# Altium footprint library ZIN-A.PcbLib: 24 footprints (part 2 of 2)
Each footprint in its own frame and in the unit in brackets; x right, y up, seen from the top. Pads: shape width x height; smd on the part's side, far side on the other; paste and mask are expansions set on the pad; w line width, h text height; cw(c..) or ccw(c..) is an arc to the next point about the centre after c.
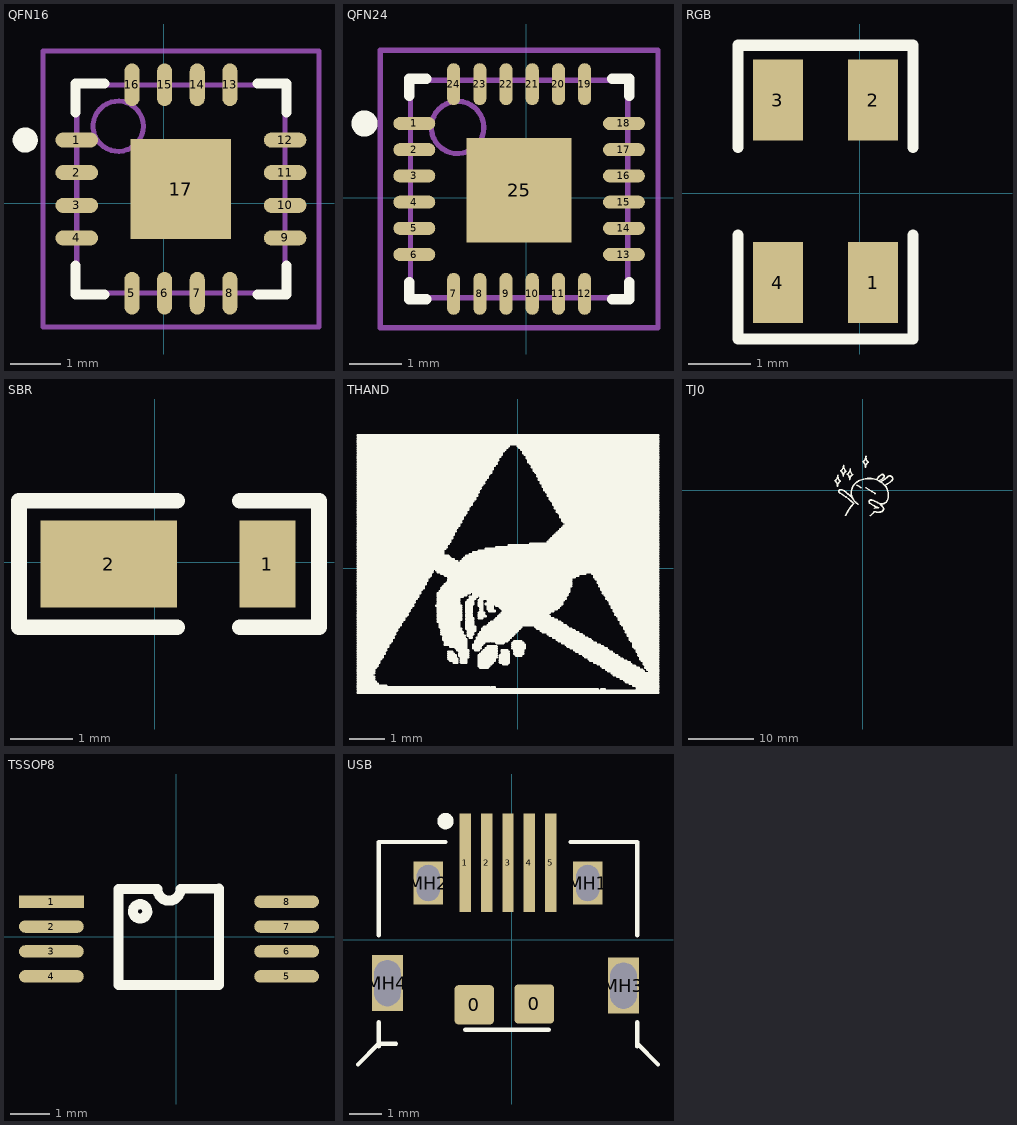
[diagram p1: the footprints below, top view; thin cyan lines are the x and y axes]

## QFN16 [mm]
pads (17):
  oval 0.85x0.3 smd: 1(-1.731,1.258) 2(-1.731,0.608) 3(-1.731,-0.042) 4(-1.731,-0.692) 9(2.419,-0.692) 10(2.419,-0.042) 11(2.419,0.608) 12(2.419,1.258)
  oval 0.3x0.85 smd: 5(-0.631,-1.792) 6(0.019,-1.792) 7(0.669,-1.792) 8(1.319,-1.792) 13(1.319,2.358) 14(0.669,2.358) 15(0.019,2.358) 16(-0.631,2.358)
  rect 2x2 smd: 17(0.344,0.283)
Top Overlay:
  circle w0.25: c-2.756,1.258 r0.125
  lines w0.2: -1.756,-1.242 -1.756,-1.817 -1.181,-1.817 ; -1.756,1.808 -1.756,2.383 -1.181,2.383 ; 1.869,-1.817 2.444,-1.817 2.444,-1.242 ; 1.869,2.383 2.444,2.383 2.444,1.808
Mechanical 13:
  circle w0.1: c-0.906,1.533 r0.5
  lines w0.1: -1.731,-1.792 -1.731,2.358 2.419,2.358 2.419,-1.792 -1.731,-1.792
Mechanical 15:
  lines w0.1: -0.156,0.283 0.844,0.283 ; 0.344,-0.217 0.344,0.783 ; -2.406,-2.467 -2.406,3.033 3.094,3.033 3.094,-2.467 -2.406,-2.467
3D body: height 0.78, standoff -0.02, extent -1.651,-1.756 2.369,2.264

## QFN24 [mm]
pads (25):
  oval 0.8x0.25 smd: 1(-2.136,1.413) 2(-2.136,0.913) 3(-2.136,0.413) 4(-2.136,-0.087) 5(-2.136,-0.587) 6(-2.136,-1.087) 13(1.864,-1.087) 14(1.864,-0.587) 15(1.864,-0.087) 16(1.864,0.413) 17(1.864,0.913) 18(1.864,1.413)
  oval 0.25x0.8 smd: 7(-1.386,-1.837) 8(-0.886,-1.837) 9(-0.386,-1.837) 10(0.114,-1.837) 11(0.614,-1.837) 12(1.114,-1.837) 19(1.114,2.163) 20(0.614,2.163) 21(0.114,2.163) 22(-0.386,2.163) 23(-0.886,2.163) 24(-1.386,2.163)
  rect 2x2 smd: 25(-0.136,0.138)
Top Overlay:
  circle w0.25: c-3.086,1.413 r0.125
  lines w0.2: -2.236,-1.612 -2.236,-1.937 -1.911,-1.937 ; -2.236,1.938 -2.236,2.263 -1.911,2.263 ; 1.639,-1.937 1.964,-1.937 1.964,-1.612 ; 1.639,2.263 1.964,2.263 1.964,1.938
Mechanical 13:
  circle w0.1: c-1.311,1.338 r0.5
  lines w0.1: -2.211,-1.912 1.939,-1.912 1.939,2.238 -2.211,2.238 -2.211,-1.912
Mechanical 15:
  lines w0.1: -0.636,0.163 0.364,0.163 ; -0.136,-0.337 -0.136,0.663 ; -2.786,-2.487 2.514,-2.487 2.514,2.813 -2.786,2.813 -2.786,-2.487
3D body: height 0.98, standoff -0.02, extent -2.159,-1.858 1.861,2.162

## RGB [mm]
pads (5):
  rect 0.8x1.3 smd: 1(0.215,-1.43) 2(0.215,1.491) 3(-1.309,1.491) 4(-1.309,-1.43)
  rrect50% 0.8x0.8 on Top Overlay: 10(1.153,2.067)
Top Overlay:
  lines w0.178: -1.944,-0.668 -1.944,-2.333 0.85,-2.333 0.85,-0.668 ; -1.944,0.729 -1.944,2.367 0.85,2.367 0.85,0.729
3D body: height 1.75, standoff -0.15, extent -1.88,-1.648 0.92,1.852

## SBR [mm]
pads (2):
  rect 0.9x1.4 smd: 1(1.814,-0.027)
  rect 2.2x1.4 smd: 2(-0.736,-0.027)
Top Overlay:
  lines w0.254: 0.359,-1.043 -2.181,-1.043 -2.181,0.989 0.359,0.989 ; 1.375,-1.043 2.645,-1.043 2.645,0.989 1.375,0.989
3D body: height 0.9, standoff 0, extent -1.461,-0.827 1.939,0.798

## THAND [mm]
Top Overlay:
  drawing of 472 lines, arcs and shapes, not listed

## TJ0 [mm] "TSJ"
height 9.6
Top Overlay:
  lines w0.254: -3.825,2.286 cw(c-4.826,2.286) -4.271,1.453 cw(c-4.953,0.635) -3.888,0.635 cw(c-3.048,0.635) -3.449,1.372 cw(c-2.794,2.159) -3.81,2.286 ; -3.437,-0.5 -3.683,-0.254 -3.683,-0.086 -3.513,0.084 -3.179,0.084 cw(c-6.477,-5.588) -1.651,-1.143 ; -3.419,-0.5 cw(c-8.763,-9.652) -1.397,-2.032 ccw(c8.255,-9.906) -2.646,-3.878 ; -2.936,3.81 cw(c-3.937,3.81) -3.382,2.977 cw(c-4.064,2.159) -2.999,2.159 cw(c-2.159,2.159) -2.56,2.896 cw(c-1.905,3.683) -2.921,3.81 ; -1.92,3.302 cw(c-2.921,3.302) -2.366,2.469 cw(c-3.048,1.651) -1.983,1.651 cw(c-1.143,1.651) -1.544,2.388 cw(c-0.889,3.175) -1.905,3.302 ; -0.886,0.767 cw(c-5.334,-7.239) -0.254,0.381 ; -0.696,-2.146 cw(c0.254,-0.381) -1.09,1.106 cw(c0.762,-1.143) 0.387,1.746 cw(c1.016,-1.397) 3.596,0.504 ; 0.493,5.207 cw(c-0.508,5.207) 0.047,4.374 cw(c-0.635,3.556) 0.43,3.556 cw(c1.27,3.556) 0.869,4.293 cw(c1.524,5.08) 0.508,5.207 ; 0.497,0.361 cw(c-8.001,-14.986) 1.905,-0.508 ; 1.143,-3.937 ccw(c-1.016,-1.016) 1.795,-3.316 ccw(c2.413,-0.508) 2.662,-3.372 ccw(c2.667,-2.794) 3.234,-2.907 ; 1.397,-1.524 ccw(c1.27,-1.778) 1.143,-2.032 ccw(c3.175,0.508) 2.298,-2.624 ; 1.401,-1.51 cw(c0.508,-4.699) 2.286,-1.905 ; 1.778,-2.794 cw(c2.426,-4.737) 2.437,-2.689 ; 2.173,1.643 cw(c3.937,0.635) 2.928,2.399 cw(c3.048,2.159) 3.23,1.962 cw(c2.032,2.921) 2.667,1.524 ; 2.296,-1.889 cw(c0.635,-4.572) 3.105,-2.61 cw(c2.794,-2.921) 3.234,-2.921 ; 2.652,-2.098 ccw(c2.921,-1.143) 3.875,-1.415 ccw(c1.397,-0.762) 3.447,0.775 ccw(c2.159,3.81) 4.422,1.413 ccw(c4.191,1.778) 3.951,2.137 ; 2.921,1.397 ccw(c0.889,5.334) 3.954,2.135

## TSSOP8 [mil]
pads (8):
  rect 65x12.5 smd: 1(-125.2,35.43)
  oval 65x12.5 smd: 2(-125.2,10.43) 3(-125.2,-14.57) 4(-125.2,-39.57) 5(110.8,-39.57) 6(110.8,-14.57) 7(110.8,10.43) 8(110.8,35.43)
Top Overlay:
  lines w10: -36.2,18.43 cw(c-36.2,25.64) -35.18,18.51 ; -57.7,-48.03 -57.7,47.93 -18.74,47.93 ccw(c-7.2,47.93) 4.35,47.93 42.8,48.43 42.8,-48.03 -57.7,-48.03
3D body: height 37.4, standoff 0, extent -105.46,-61 87.46,57.11

## USB [mm]
pads (11):
  rrect20% 1.2x1.2 smd: 0(-1.143,-1.981) 0(0.686,-1.956)
  rect 0.35x3 smd: 1(-1.414,2.342) 2(-0.764,2.342) 3(-0.114,2.342) 4(0.536,2.342) 5(1.186,2.342)
  rect 0.9x1.3 hole 0.7 slot 1.1 at 90 deg unplated: MH1(2.311,1.727) MH2(-2.539,1.727)
  rect 0.95x1.7 hole 0.8 slot 1.4 at 90 deg unplated: MH3(3.404,-1.397) MH4(-3.785,-1.321)
Top Overlay:
  circle w0.25: c-2.017,3.612 r0.125
  lines w0.127: -4.681,-3.796 -4.051,-3.166 -3.526,-3.166 ; -4.051,-3.246 -4.051,-2.738 -4.051,-2.514 ; -4.051,0.136 -4.051,2.977 -2.019,2.977 ; -1.414,-2.738 1.126,-2.738 ; 1.791,2.977 3.823,2.977 3.823,0.136 ; 3.823,-3.246 3.823,-2.738 3.823,-2.514 ; 3.823,-3.166 4.453,-3.796
3D body: height 2.8, standoff -0.95, extent -4.154,-3.988 3.849,1.612